# Altium footprint library Footprint_SMT_Inductors.PcbLib: 4 footprints
Each footprint in its own frame and in the unit in brackets; x right, y up, seen from the top. Pads: shape width x height; smd on the part's side, far side on the other; paste and mask are expansions set on the pad; w line width, h text height; cw(c..) or ccw(c..) is an arc to the next point about the centre after c.
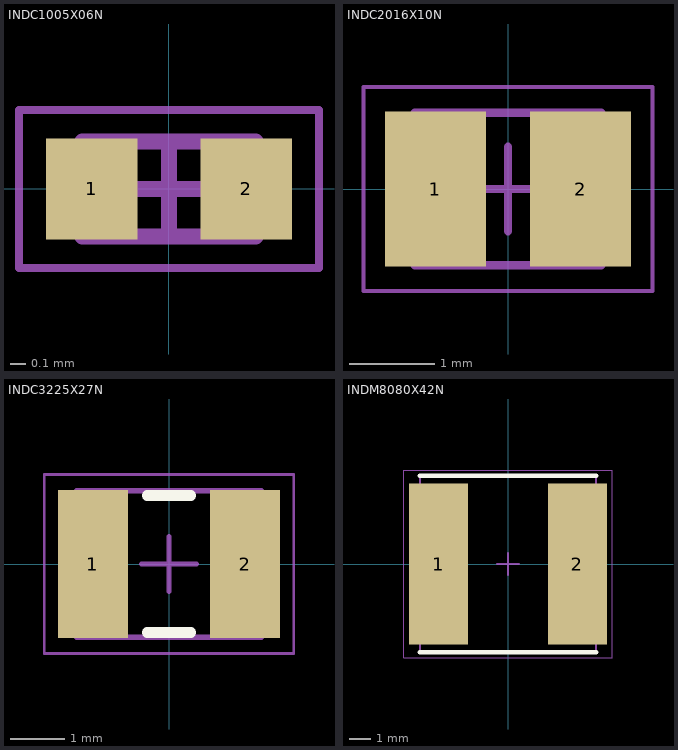
[diagram p0: the footprints below, top view; thin cyan lines are the x and y axes]

## INDC1005X06N [mm] "Chip Inductor, 2-Leads, Body 1.00x0.50mm, IPC Medium Density"
height 0.6
pads (2):
  rect 0.58x0.64 smd: 1(-0.49,0) 2(0.49,0)
Mechanical 13:
  lines w0.1: -0.55,-0.3 0.55,-0.3 0.55,0.3 -0.55,0.3 -0.55,-0.3
Mechanical 15:
  lines w0.05: -0.95,-0.5 0.95,-0.5 0.95,0.5 -0.95,0.5 -0.95,-0.5
  lines w0.1: -0.3,0 0.3,0 ; 0,-0.3 0,0.3
3D body "INDC1005X06N.step": height 0.6, standoff 0, extent -0.55,-0.3 0.55,0.3

## INDC2016X10N [mm] "0806, Chip Inductor, 2-Leads, Body 2.00x1.60mm, IPC Medium Density"
height 1
pads (2):
  rect 1.19x1.82 smd: 1(-0.855,0) 2(0.855,0)
Mechanical 13:
  lines w0.1: -1.1,-0.9 1.1,-0.9 1.1,0.9 -1.1,0.9 -1.1,-0.9
Mechanical 15:
  lines w0.05: -1.7,-1.2 1.7,-1.2 1.7,1.2 -1.7,1.2 -1.7,-1.2
  lines w0.1: -0.5,0 0.5,0 ; 0,-0.5 0,0.5
3D body "INDC2016X10N.step": height 1, standoff 0, extent -1.1,-0.9 1.1,0.9

## INDC3225X27N [mm] "1210 Chip Inductor, 2-Leads, Body 3.20x2.50mm, IPC Medium Density"
height 2.7
pads (2):
  rect 1.29x2.72 smd: 1(-1.405,0) 2(1.405,0)
Top Overlay:
  lines w0.2: -0.4,-1.26 0.4,-1.26 ; -0.4,1.26 0.4,1.26
Mechanical 13:
  lines w0.1: -1.7,-1.35 1.7,-1.35 1.7,1.35 -1.7,1.35 -1.7,-1.35
Mechanical 15:
  lines w0.05: -2.3,-1.65 2.3,-1.65 2.3,1.65 -2.3,1.65 -2.3,-1.65
  lines w0.1: -0.5,0 0.5,0 ; 0,-0.5 0,0.5
3D body "INDC3225X27N.step": height 2.7, standoff 0, extent -1.7,-1.35 1.7,1.35

## INDM8080X42N [mm] "Molded Inductor, 2-Leads, Body 8.00x8.00mm, IPC Medium Density"
height 4.2
pads (2):
  rect 2.75x7.5 smd: 1(-3.225,0) 2(3.225,0)
Top Overlay:
  lines w0.2: -4.1,-4.1 4.1,-4.1 ; -4.1,4.1 4.1,4.1
Mechanical 13:
  lines w0.1: -4.1,-4.1 -4.1,4.1 4.1,4.1 4.1,-4.1 -4.1,-4.1
Mechanical 15:
  lines w0.05: -4.85,-4.35 -4.85,4.35 4.85,4.35 4.85,-4.35 -4.85,-4.35
  lines w0.1: -0.5,0 0.5,0 ; 0,-0.5 0,0.5
3D body "INDM8080X42N.step": height 4.2, standoff 0, extent -4.32,-4.1 4.32,4.1